# Altium schematic symbol library SI6463BDQ.SchLib: 1 symbol
Pins are listed as number, name and electrical type; pins without a type are passive.

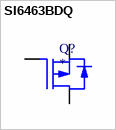
[diagram p0: symbol SI6463BDQ]

## SI6463BDQ
designator Q?
pins: D, G, S